# Altium footprint library ECA-1JHG222.PcbLib: 1 footprints
Each footprint in its own frame and in the unit in brackets; x right, y up, seen from the top. Pads: shape width x height; smd on the part's side, far side on the other; paste and mask are expansions set on the pad; w line width, h text height; cw(c..) or ccw(c..) is an arc to the next point about the centre after c.
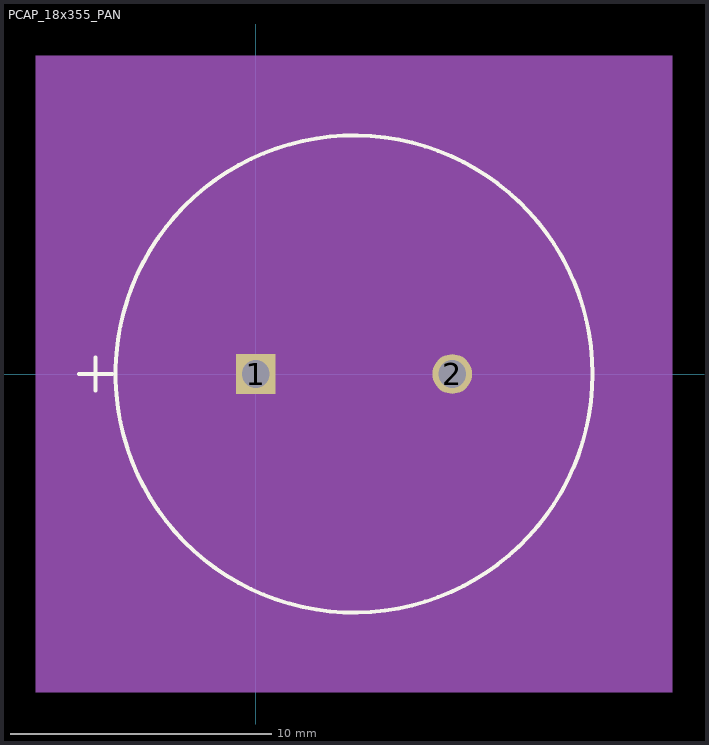
[diagram p0: the footprint, top view; thin cyan lines are the x and y axes]

## PCAP_18x355_PAN [mil]
pads (2):
  rect 60x60 hole 42 mask+0: 1(0,0)
  round 60 hole 42 mask+0: 2(296,0)
Top Overlay:
  circle w6: c148,0 r359.5
  lines w6: -266.5,0 -216.5,0 ; -241.5,-25 -241.5,25
Mechanical 5:
  region: 627.5,-479.5 -331.5,-479.5 -331.5,479.5 627.5,479.5
Mechanical 13:
  circle w0: c148,0 r354.5
  lines w1: -266.5,0 -216.5,0 ; -241.5,-25 -241.5,25
Mechanical 15:
  region: -216.5,150.09 -2.09,364.5 298.09,364.5 512.5,150.09 512.5,-150.09 298.09,-364.5 -2.09,-364.5 -216.5,-150.09
  lines w1: -216.5,-150.09 -2.09,-364.5 298.09,-364.5 512.5,-150.09 512.5,150.09 298.09,364.5 -2.09,364.5 -216.5,150.09 -216.5,-150.09
3D body "PCAP_18x355_PAN.step": height 1378.62, standoff -195.98, extent -206.5,-354.3 503.13,354.3